# EAGLE library part PI5C3303 (library Switch_P4)
SOTiny™ 2:1 Mux/DeMux Bus Switch
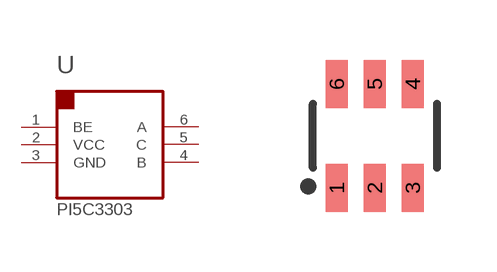
[diagram p5: symbol with the pads of SOT-23-6; footprint SOT-23-6]

Designator prefix U

## PI5C3303  [SOT-23-6]
1  BE  pas
2  VCC  pwr
3  GND  pwr
4  B  pas
5  C  pas
6  A  pas

## Footprint SOT-23-6 (pad centres in mm)
SOT23-6
smd 0.55 x 1.2: 1 -0.95,-1.3; 2 0,-1.3; 3 0.95,-1.3; 4 0.95,1.3; 5 0,1.3; 6 -0.95,1.3